# Altium schematic symbol library Jack_DC-140-0.SchLib: 1 symbol
Pins are listed as number, name and electrical type; pins without a type are passive.

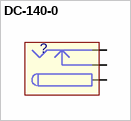
[diagram p0: symbol DC-140-0]

## DC-140-0
designator ?  (value not drawn)
DC-140-0; Value: *
footprint DC-140-0
pins: 1, 2, 3